# Altium schematic symbol library ZM5202.SchLib: 1 symbol
Pins are listed as number, name and electrical type; pins without a type are passive.

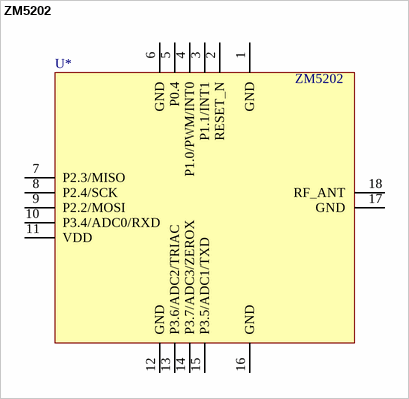
[diagram p0: symbol ZM5202]

## ZM5202
designator U*
footprint ZM5202
pins: 1 GND, 2 RESET_N, 3 P1.1/INT1, 4 P1.0/PWM/INT0, 5 P0.4, 6 GND, 7 P2.3/MISO, 8 P2.4/SCK, 9 P2.2/MOSI, 10 P3.4/ADC0/RXD, 11 VDD, 12 GND, 13 P3.6/ADC2/TRIAC, 14 P3.7/ADC3/ZEROX, 15 P3.5/ADC1/TXD, 16 GND, 17 GND, 18 RF_ANT